# Altium footprint library PCB - ANNOTATION - DESIGNATOR AND COMMENT.PCBLIB: 1 footprints
Each footprint in its own frame and in the unit in brackets; x right, y up, seen from the top. Pads: shape width x height; smd on the part's side, far side on the other; paste and mask are expansions set on the pad; w line width, h text height; cw(c..) or ccw(c..) is an arc to the next point about the centre after c.

## Designator:comment [mm] "prints out designator and comment of a component"
Top Overlay:
  text ".Designator: .Comment" at -0.127,-0.635 h2